# EAGLE library part SHC_M10382-A1 (library Physoon)
Antenova’s GPS RADIONOVA® M10382 is a single package solution that combines a full GPS engine and antenna on a small SMD module. The M10382 is a highly integrated GPS RF Antenna Module suitable for L1-band GPS and A-GPS systems. The device combines the high performance u-blox 6 GPS position engine with Antenova’s high efficiency antenna technology in a small SMD module. M10382 also benefits from novel external matching that ensures easy tuning for each platform. All front-end and receiver components are contained in a single package laminate base module, providing a complete GPS receiver for optimum performance. The M10382 operates on 1.8V or 3.3V positive supply with low power consumption and several low power modes for further power savings. An accurate 0.5ppm TCXO and very low noise LNA ensures high sensitivity and short TTFF. The M10382 is supported by u-blox stand alone software and is compatible with UART, SPI, DDC, I2C and USB host processor interfaces.
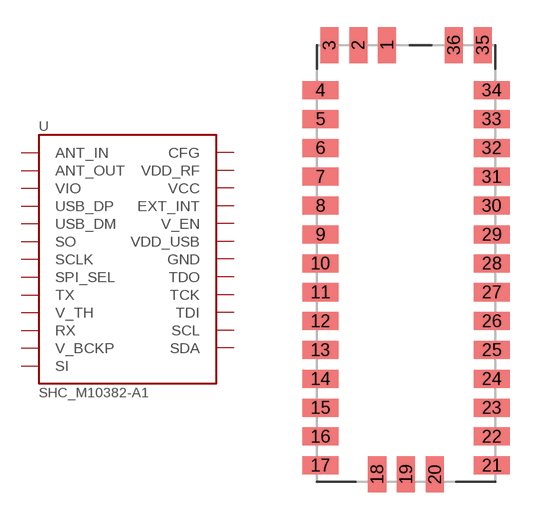
[diagram p0: symbol with the pads of SHC_M10382-A1; footprint SHC_M10382-A1]

Designator prefix -

## SHC_M10382-A1  [SHC_M10382-A1]
1  ANT_IN
2  GND
3  ANT_OUT
4  GND
5  VIO
6  USB_DP
7  USB_DM
8  SO
9  SCLK
10  SPI_SEL
11  TX
12  V_TH
13  RX
14  GND
15  V_BCKP
16  SI
17  GND
18  SDA
19  SCL
20  TDI
21  GND
22  TCK
23  TDO
24  GND
25  VDD_RF
26  GND
27  VCC
28  GND
29  EXT_INT
30  V_EN
31  CFG
32  VDD_USB
33  GND
34  GND
35  GND
36  GND

## Footprint SHC_M10382-A1 (pad centres in mm)
smd 1 x 2: 1 -1.05,12.1; 2 -2.65,12.1; 3 -4.25,12.1; 18 -1.6,-11.7; 19 0,-11.7; 20 1.6,-11.7; 35 4.25,12.1; 36 2.65,12.1
smd 2 x 1: 4 -4.75,9.6; 5 -4.75,8; 6 -4.75,6.4; 7 -4.75,4.8; 8 -4.75,3.2; 9 -4.75,1.6; 10 -4.75,0; 11 -4.75,-1.6; 12 -4.75,-3.2; 13 -4.75,-4.8; 14 -4.75,-6.4; 15 -4.75,-8; 16 -4.75,-9.6; 17 -4.75,-11.2; 21 4.75,-11.2; 22 4.75,-9.6; 23 4.75,-8; 24 4.75,-6.4; 25 4.75,-4.8; 26 4.75,-3.2; 27 4.75,-1.6; 28 4.75,0; 29 4.75,1.6; 30 4.75,3.2; 31 4.75,4.8; 32 4.75,6.4; 33 4.75,8; 34 4.75,9.6